# Altium schematic symbol library Component.SchLib: 203 symbols (part 2 of 2)
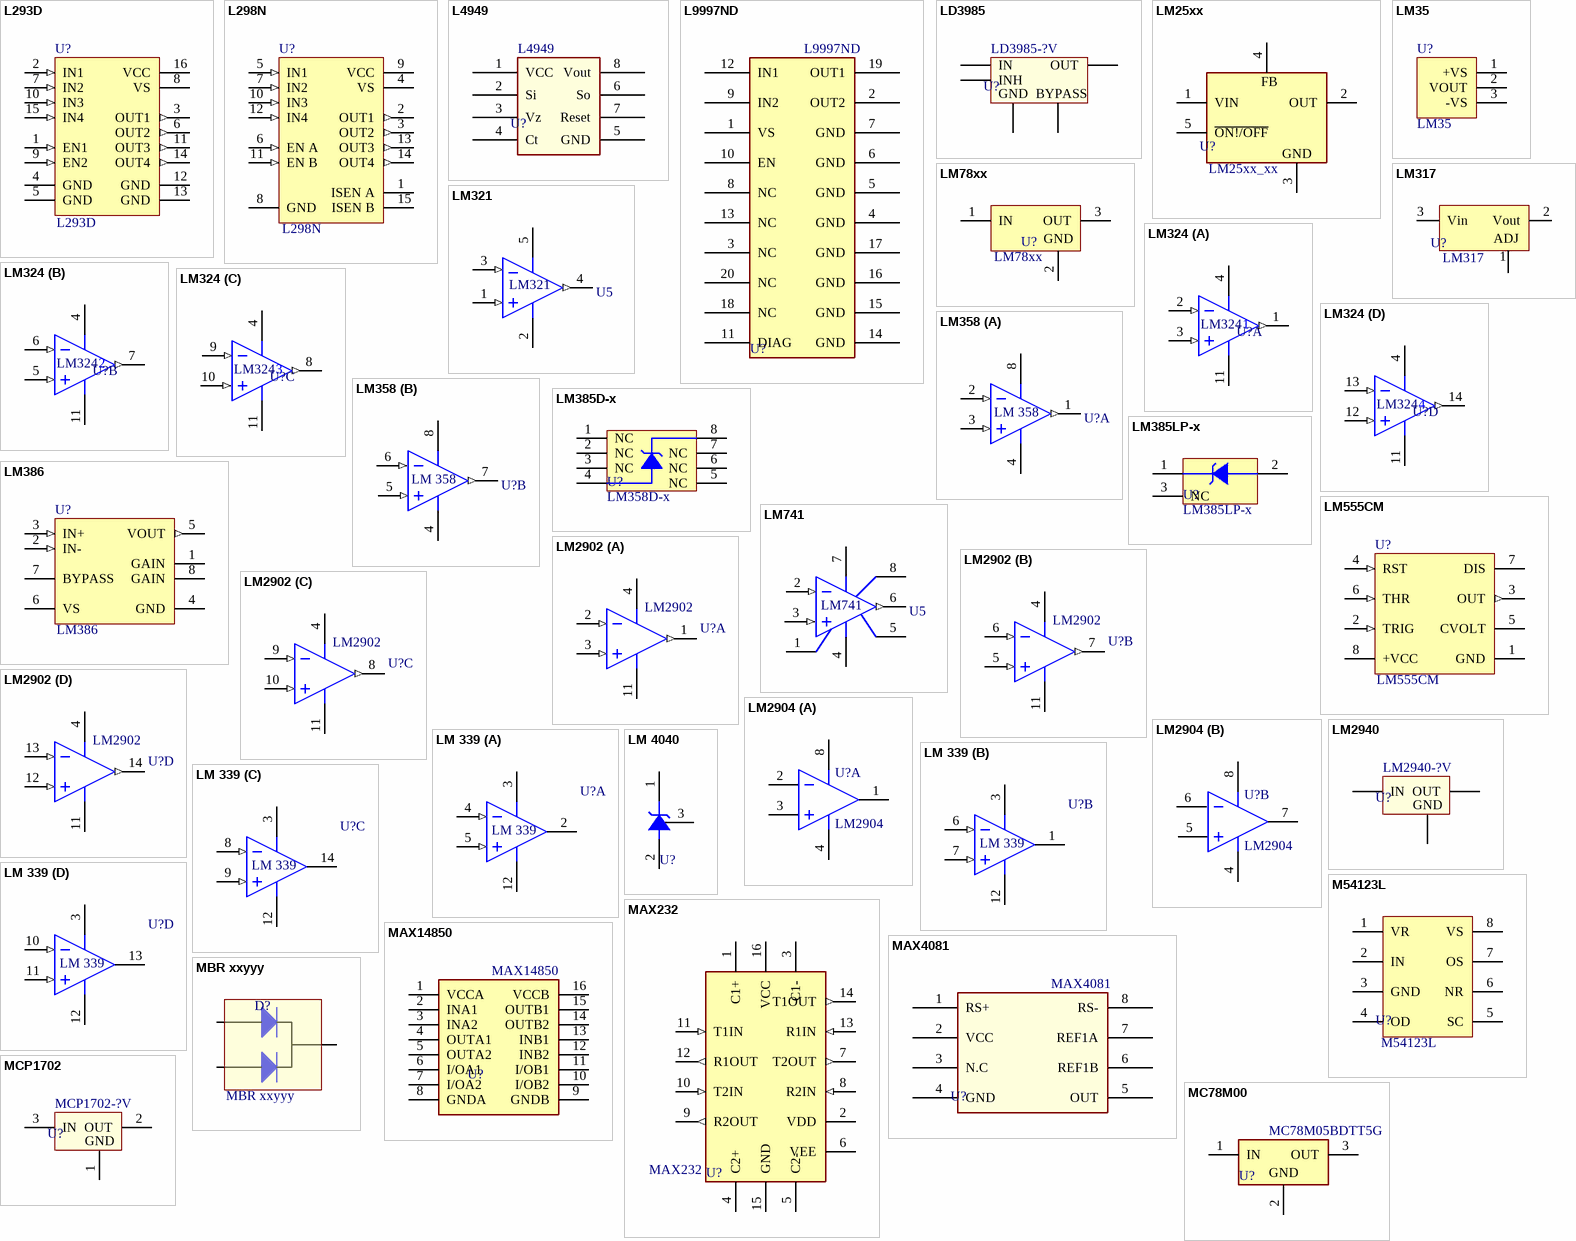
[diagram p8: symbols L293D to MCP1702]

## LM2902
designator U?
Quadruple Operational Amplifiers; PartNumber: LM2902; Temperature Range: -x°C to x°C
footprint DIP 14-N (DIP; 14 Leads; Row Spacing 7.62 mm; Pitch 2.54 mm)
footprint SOIC 14-3.9mm (SOIC, 14-Leads, Body 8.7x3.9mm, Pitch 1.27mm, IPC Medium Density)
part A pins: 1 OUT (out), 2 IN+ (in), 3 IN- (in), 4 V+ (power), 11 V- (power)
part B pins: 4 V+ (power), 5 IN- (in), 6 IN+ (in), 7 OUT (out), 11 V- (power)
part C pins: 4 V+ (power), 8 OUT (out), 9 IN+ (in), 10 IN- (in), 11 V- (power)
part D pins: 4 V+ (power), 11 V- (power), 12 IN- (in), 13 IN+ (in), 14 OUT (out)

## LM2904
designator U?
Low-power dual operational amplifier; SMD Code: LM2904DT; Specification: LM2904 Low-power dual operational amplifier; Warehouse Number: 11000640; Temperature Range: -40°C to 125°C; Package: SOIC 8-3.9mm; PartNumber: LM2904
footprint DIP 8-N (DIP; 8 Leads; Row Spacing 7.62 mm; Pitch 2.54 mm)
footprint SOIC 8-3.9mm (SOIC, 8-Leads, Body 4.9x3.9mm, Pitch 1.27mm, IPC Medium Density)
pins on every part: 4 V- (power), 8 V+ (power)
part A pins: 1 OUT, 2 IN+, 3 IN-
part B pins: 5 IN-, 6 IN+, 7 OUT

## LM2940
designator U?, comment LM2940-?V
The LM2940-N and LM2940C positive voltage The LM2940-N and LM2940C positive voltage The LM2940-N and LM2940C positive voltage maximum of 1 V over the entire temperature range.; Temperature Range: -x°C to x°C; PartNumber: LM2940-?V
footprint SOT223_4 (SOT223, 4-Leads, Body 6.5x3.5mm, Pitch 2.30mm-Designer Abbas Basereh)
pins: 1 IN, 2 GND, 3 OUT

## LM 339
designator U?
Low-Power Quad Voltage Comparator; PartNumber: LM 339; Temperature Range: -x°C to x°C
footprint DIP 14-N (DIP; 14 Leads; Row Spacing 7.62 mm; Pitch 2.54 mm)
footprint SOIC 14-3.9mm (SOIC, 14-Leads, Body 8.7x3.9mm, Pitch 1.27mm, IPC Medium Density)
pins on every part: 3 V+ (power), 12 V- (power)
part A pins: 2 OUT (oc), 4 IN- (in), 5 IN+ (in)
part B pins: 1 OUT (oc), 6 IN- (in), 7 IN+ (in)
part C pins: 8 IN- (in), 9 IN+ (in), 14 OUT (oc)
part D pins: 10 IN- (in), 11 IN+ (in), 13 OUT (oc)

## LM 4040
designator U?
Fixed Output Voltages of 2.048 V, 2.5 V, 3 V,4.096 V, 5 V, 8.192 V, and 10 V; Temperature Range: -x°C to x°C
footprint SOT23_N (SOT23, 3-Leads, Body 2.9x1.3mm, Pitch 0.95mm, Lead Span 2.3mm - Reverse Pinning, IPC Medium Density)
pins: 1 K, 2 A, 3 A

## M54123L
designator U?
EARTH LEAKAGE CURRENT  DETECTOR; PartNumber: M54123L; Temperature Range: -x°C to x°C
footprint SOIC 8-3.9mm (SOIC, 8-Leads, Body 4.9x3.9mm, Pitch 1.27mm, IPC Medium Density)
footprint SIP-8Pin
pins: 1 VR, 2 IN, 3 GND, 4 OD, 5 SC, 6 NR, 7 OS, 8 VS

## MAX232
designator U?
+5V Powered RS-232 Driver/Receiver; PartNumber: MAX232; Temperature Range: -x°C to x°C
footprint DIP 16-N (DIP; 16 Leads; Row Spacing 7.62 mm; Pitch 2.54 mm)
footprint SOIC 16-7.5MM (SOIC, 16-Leads, Body 10.3x7.5mm, Pitch 1.27mm, IPC Medium Density)
pins: 1 C1+, 2 VDD (power), 3 C1-, 4 C2+, 5 C2-, 6 VEE (power), 7 T2OUT (out), 8 R2IN (in), 9 R2OUT (out), 10 T2IN (in), 11 T1IN (in), 12 R1OUT (out), 13 R1IN (in), 14 T1OUT (out), 15 GND (power), 16 VCC (power)

## MAX4081
designator U?
76V, High-Side, Current-Sense Amplifiers / with Voltage Output; PartNumber: MAX4081; Temperature Range: -x°C to x°C
footprint SOIC 8-3.9mm (SOIC, 8-Leads, Body 4.9x3.9mm, Pitch 1.27mm, IPC Medium Density)
pins: 1 RS+, 2 VCC, 3 N.C, 4 GND, 5 OUT, 6 REF1B, 7 REF1A, 8 RS-

## MAX14850
designator U?
Digital Isolators Six Channel 600vrms Digital Isolator; PartNumber: MAX14850; Temperature Range: -x°C to x°C
footprint SOP-16N
pins: 1 VCCA, 2 INA1, 3 INA2, 4 OUTA1, 5 OUTA2, 6 I/OA1, 7 I/OA2, 8 GNDA, 9 GNDB, 10 I/OB2, 11 I/OB1, 12 INB2, 13 INB1, 14 OUTB2, 15 OUTB1, 16 VCCB

## MBR xxyyy
designator D?
Shotky; PartNumber: MBR xxyyy; Temperature Range: -x°C to x°C
footprint TO-220 AB S (Epoxy meets UL94, V0-Design:Abbas Basereh)
footprint TO-247 (SIP with Mounting Hole; 3 Leads; Body 20 x 15.6 x 5 mm (typ); Pitch 5.45 mm)
footprint TO-220 AB (Epoxy meets UL94, V0-Design:Abbas Basereh)
pins: 1, 2, 3

## MC78M00
designator U?, comment MC78M05BDTT5G
500mA, Very Low Drop (0.4V) Voltage Regulator; PartNumber: MC78M05BDTT5G; Temperature Range: -x°C to x°C
footprint D-PAK (D-PAK/TO-252-AA; 3 Leads (1 Cropped); Body 10.4 (inc. leads) x 6.7 mm (LxW max))
pins: 1 IN (power), 2 GND (power), 3 OUT (power)

## MCP1702
designator U?, comment MCP1702-?V
The MCP1702 is a family of CMOS low dropout (LDO) voltage regulators that can deliver up to 250 mA of current; PartNumber: MCP1702-?V; Temperature Range: -x°C to x°C
footprint SOT23_N (SOT23, 3-Leads, Body 2.9x1.3mm, Pitch 0.95mm, Lead Span 2.3mm - Reverse Pinning, IPC Medium Density)
footprint SOT223_4 (SOT223, 4-Leads, Body 6.5x3.5mm, Pitch 2.30mm-Designer Abbas Basereh); pin to pad 2>3 3>2
footprint TO-92 STR (DESIGNER :ABBAS BASEREH); pin to pad 2>3 3>2
pins: 1 GND, 2 OUT, 3 IN

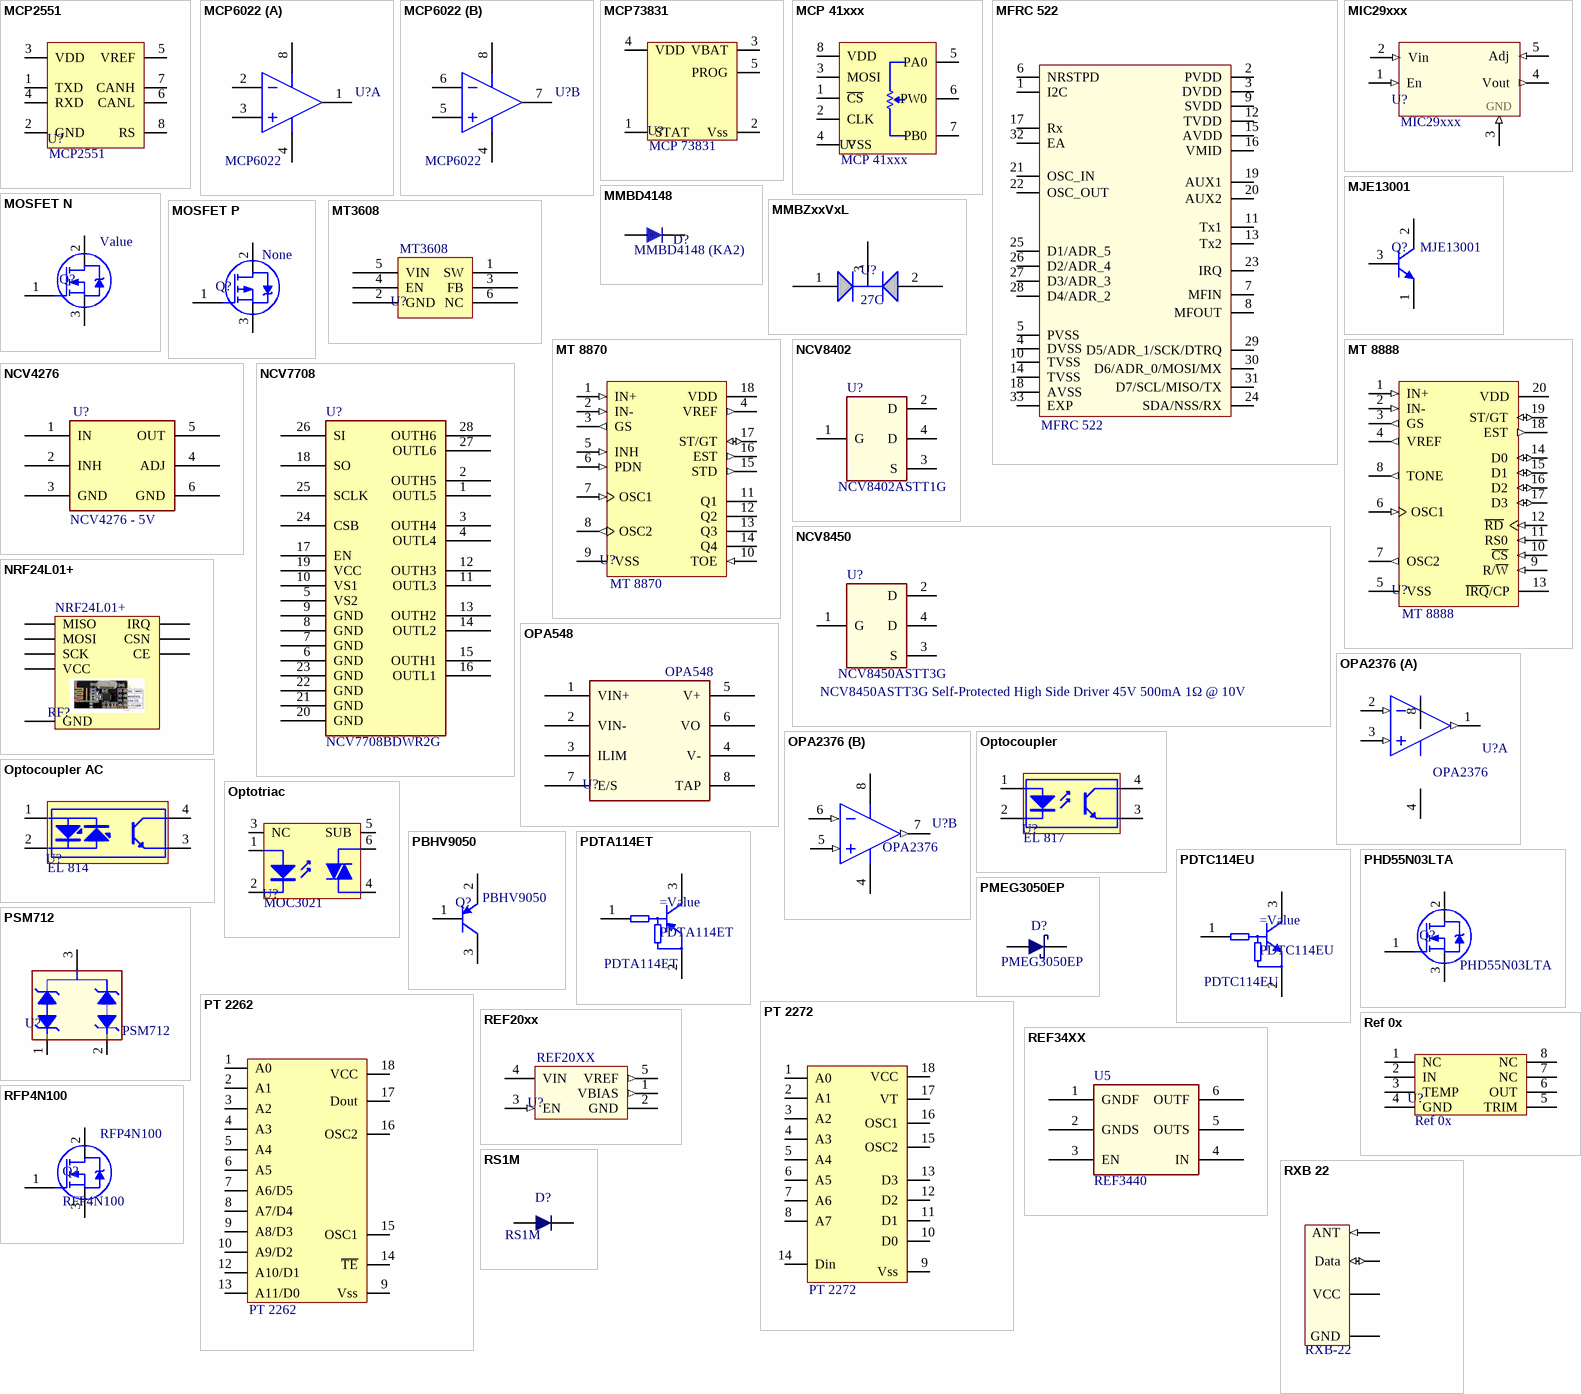
[diagram p4: symbols MCP2551 to RXB 22]

## MCP2551
designator U?
High Speed Can Transceiver; PartNumber: MCP2551; Temperature Range: -x°C to x°C
footprint DIP 8-N (DIP; 8 Leads; Row Spacing 7.62 mm; Pitch 2.54 mm)
footprint SOIC 8-3.9mm (SOIC, 8-Leads, Body 4.9x3.9mm, Pitch 1.27mm, IPC Medium Density)
pins: 1 TXD "Screw Terminal", 2 GND (power), 3 VDD (power) "Positive Supply 4.5V to 5.5V", 4 RXD "Receive Data", 5 VREF "Reference Voltage", 6 CANL "CAN Bus Low Line", 7 CANH "CAN Bus High Line", 8 RS "Mode/Slope Setting"

## MCP6022
designator U?
Rail-to-Rail Input/Output, 10 MHz Op Amps; PartNumber: MCP6022; Temperature Range: -x°C to x°C
footprint DIP 8-N (DIP; 8 Leads; Row Spacing 7.62 mm; Pitch 2.54 mm)
footprint SOIC 8-3.9mm (SOIC, 8-Leads, Body 4.9x3.9mm, Pitch 1.27mm, IPC Medium Density)
pins on every part: 4 V- (power), 8 V+ (power)
part A pins: 1 OUT, 2 IN+, 3 IN-
part B pins: 5 IN-, 6 IN+, 7 OUT

## MCP73831
designator U?, comment MCP 73831
Single-Cell, Fully Integrated Li-Ion & Li-Polymer Charge Management Controllers; PartNumber: MCP 73831; Temperature Range: -x°C to x°C
footprint SOT23-5
pins: 1 STAT "Screw Terminal", 2 Vss (power) "GND", 3 VBAT (power) "Positive Supply 4.5V to 5.5V", 4 VDD (power) "Receive Data", 5 PROG "Reference Voltage"

## MCP 41xxx
designator U?
Single Digital Potentiometer with SPI™ Interface; PartNumber: MCP 41xxx; Temperature Range: -x°C to x°C
footprint SOIC 8-3.9mm (SOIC, 8-Leads, Body 4.9x3.9mm, Pitch 1.27mm, IPC Medium Density)
pins: 1 ~{CS}, 2 CLK, 3 MOSI, 4 VSS (power), 5 PA0 (power), 6 PW0 (power), 7 PB0 (power), 8 VDD "Mode/Slope Setting"

## MFRC 522
designator U?
Standard 3V MIFARE reader solution IC; PartNumber: MFRC 522; Temperature Range: -x°C to x°C
footprint QFN32_5x5 (Thin QFP, 48-Leads, Body 7x7mm, Pitch 0.5mm, IPC Medium Density)
pins: 1 I2C, 2 PVDD, 3 DVDD, 4 DVSS, 5 PVSS, 6 NRSTPD, 7 MFIN, 8 MFOUT, 9 SVDD, 10 TVSS, 11 Tx1, 12 TVDD, 13 Tx2, 14 TVSS, 15 AVDD, 16 VMID, 17 Rx, 18 AVSS, 19 AUX1, 20 AUX2, 21 OSC_IN, 22 OSC_OUT, 23 IRQ, 24 SDA/NSS/RX, 25 D1/ADR_5, 26 D2/ADR_4, 27 D3/ADR_3, 28 D4/ADR_2, 29 D5/ADR_1/SCK/DTRQ, 30 D6/ADR_0/MOSI/MX, 31 D7/SCL/MISO/TX, 32 EA, 33 EXP

## MIC29xxx
designator U?
LDO Voltage Regulator; PartNumber: MIC29xxx; Temperature Range: -x°C to x°C
footprint D2PAK5 (D2PAK5-(TO263-5))
footprint To-220-5A (TO, Thru-Hole, Vertical, Heatsink Mounted; 5 In-Line Leads; Pitch 1.70 mm)
footprint TO-220_5 - with heatsink ya25 (TO-220 STRAIGHT, T05A pitch: 1.7mm-Designer Abbas Basereh)
footprint TO-220_5 with heatsink HS sot32 (TO-220 STRAIGHT, T05A pitch: 1.7mm-Designer Abbas Basereh)
pins: 1 En (in), 2 Vin (in), 3 GND (in), 4 Vout (out), 5 Adj (in)

## MJE13001
designator Q?
400 V, 200 mA NPN transistors; PartNumber: MJE13001; Temperature Range: -x°C to x°C
footprint TO-92 (TO, Flat Index; 3 In-Line, Axial Leads; Body Dia. 4.6mm; Leads 0.41 x 0.39 mm (max))
footprint TO-92 BENT (DESIGNER :ABBAS BASEREH)
footprint TO-92 CF (DESIGNER :ABBAS BASEREH)
footprint TO-92 STR (DESIGNER :ABBAS BASEREH)
pins: 1 E, 2 C, 3 B

## MMBD4148
designator D?, comment MMBD4148 (KA2)
PartNumber: MMBD4148 (KA2); Temperature Range: -x°C to x°C
footprint SOT23_L (SOT23, 3-Leads, Body 2.9x1.3mm, Pitch 0.95mm, Lead Span 2.3mm - Reverse Pinning, IPC High Density)
pins: 1, 3

## MMBZxxVxL
designator U?, comment 27C
Zener Diodes, 40 Watt Peak / Power; PartNumber: 27C; Temperature Range: -x°C to x°C
footprint SOT23_N (SOT23, 3-Leads, Body 2.9x1.3mm, Pitch 0.95mm, Lead Span 2.3mm - Reverse Pinning, IPC Medium Density)
pins: 1, 2, 3

## MOSFET N
designator Q?, comment Value
PartNumber: Value; Temperature Range: -x°C to x°C
footprint TO-220 AB (Epoxy meets UL94, V0-Design:Abbas Basereh)
footprint TO-220 AB S (Epoxy meets UL94, V0-Design:Abbas Basereh)
footprint D2Pak (D2Pak-(TO263/SOT404))
footprint TO-247 H2
footprint TO-247
footprint to-247 H
footprint SOT223_4 (SOT223, 4-Leads, Body 6.5x3.5mm, Pitch 2.30mm-Designer Abbas Basereh)
pins: 1 G, 2 D, 3 S

## MOSFET P
designator Q?, comment None
PartNumber: None; Temperature Range: -x°C to x°C
footprint TO-220 AB (Epoxy meets UL94, V0-Design:Abbas Basereh)
footprint TO-220 AB S (Epoxy meets UL94, V0-Design:Abbas Basereh)
footprint D2Pak (D2Pak-(TO263/SOT404))
footprint TO-247 H2
footprint TO-247
footprint to-247 H
footprint SOT223_4 (SOT223, 4-Leads, Body 6.5x3.5mm, Pitch 2.30mm-Designer Abbas Basereh)
pins: 1 G, 2 D, 3 S

## MT3608
designator U?
2A,High Efficiency 1.2MHz Current Mode Step-Up Converter; PartNumber: MT3608; Temperature Range: -x°C to x°C
footprint SOT23-6
pins: 1 SW, 2 GND, 3 FB, 4 EN, 5 VIN, 6 NC

## MT 8870
designator U?
Reciver DTMF; PartNumber: MT 8870; Temperature Range: -x°C to x°C
footprint SOIC-SO18_L (SOIC, 28-Leads, Body 17.9x7.5mm, Pitch 1.27mm, IPC High Density)
footprint DIP 18-N (DIP; 18 Leads; Row Spacing 7.62 mm; Pitch 2.54 mm)
pins: 1 IN+ (in), 2 IN- (in), 3 GS (out), 4 VREF (out), 5 INH (in), 6 PDN (in), 7 OSC1 (in), 8 OSC2 (out), 9 VSS (power), 10 TOE (in), 11 Q1 (hiz), 12 Q2 (hiz), 13 Q3 (hiz), 14 Q4 (hiz), 15 STD (out), 16 EST (out), 17 ST/GT (io), 18 VDD (power)

## MT 8888
designator U?
Reciver&Transiver DTMF; PartNumber: MT 8888; Temperature Range: -x°C to x°C
footprint SOIC-SO20_L (SOIC, 28-Leads, Body 17.9x7.5mm, Pitch 1.27mm, IPC High Density)
pins: 1 IN+ (in), 2 IN- (in), 3 GS (out), 4 VREF (out), 5 VSS (power), 6 OSC1 (in), 7 OSC2 (out), 8 TONE (out), 9 R/~{W} (in), 10 ~{CS} (in), 11 RS0 (in), 12 ~{RD} (in), 13 ~{IRQ}/CP (oc), 14 D0 (io), 15 D1 (io), 16 D2 (io), 17 D3 (io), 18 EST (out), 19 ST/GT (io), 20 VDD (power)

## NCV4276
designator U?, comment NCV4276 - 5V
NCV4276 linear low drop voltage regulator 5V 400MA; SMD Code: NCV4276DS50R4G; Warehouse Number: 11000549; Temperature Range: -40°C to 125°C; Package: D2PAK-5(TO263-5); Specification: NCV4276 linear low drop voltage regulator 5V 400MA; PartNumber: NCV4276 - 5V
footprint D2PAK5 (D2PAK5-(TO263-5))
pins: 1 IN, 2 INH, 3 GND, 4 ADJ, 5 OUT, 6 GND

## NCV7708
designator U?, comment NCV7708BDWR2G
NCV7708EDWR2G, Half Bridge Motor Driver Half-Bridge,, 28-Pin SOIC; Temperature Range: -x°C to x°C; PartNumber: NCV7708BDWR2G
footprint SOIC 28-7.5MM (SOIC, 28-Leads, Body 17.9x7.5mm, Pitch 1.27mm, IPC Medium Density)
footprint SOIC 32-8.9MM (SOIC, 32-Leads, Body 20.8x8.9mm, Pitch 1.27mm, IPC Medium Density)
pins: 1 OUTL5, 2 OUTH5, 3 OUTH4, 4 OUTL4, 5 VS2, 6 GND, 7 GND, 8 GND, 9 GND, 10 VS1, 11 OUTL3, 12 OUTH3, 13 OUTH2, 14 OUTL2, 15 OUTH1, 16 OUTL1, 17 EN, 18 SO, 19 VCC, 20 GND, 21 GND, 22 GND, 23 GND, 24 CSB, 25 SCLK, 26 SI, 27 OUTL6, 28 OUTH6

## NCV8402
designator U?, comment NCV8402ASTT1G
Logic Level Self-Protected Low Side Driver with Temperature and Current Limit; Specification: NCV8402ASTT1G Self-Protected Low Side Driver 42V 2A 165mΩ @ 10V; SMD Code: NCV8402ASTT1G; Temperature Range: -40°C to 150°C; Package: SOT−223; PartNumber: NCV8402ASTT1G
footprint SOT223 (SOT223, 4-Leads, Body 6.5x3.5mm, Pitch 2.30mm-Designer Abbas Basereh)
pins: 1 G, 2 D, 3 S, 4 D

## NCV8450
designator U?, comment NCV8450ASTT3G  Specification: NCV8450ASTT3G Self-Protected High Side Driver 45V 500mA 1Ω @ 10V
Logic Level Self-Protected High Side Driver with Temperature and Current Limit; SMD Code: NCV8450ASTT3G; Temperature Range: -40°C to 150°C; Package: SOT−223; PartNumber: NCV8450ASTT3G
footprint SOT223 (SOT223, 4-Leads, Body 6.5x3.5mm, Pitch 2.30mm-Designer Abbas Basereh)
pins: 1 G, 2 D, 3 S, 4 D

## NRF24L01+
designator RF?
Module RF; Temperature Range: -x°C to x°C; PartNumber: NRF24L01+
footprint NRF24L01P (NRFL01+ Module)
pins: CE, CSN, GND, IRQ, MISO, MOSI, SCK, VCC

## OPA548
designator U?
OPA548 High-Voltage, High-Current Operational Amplifier; PartNumber: OPA548; Temperature Range: -x°C to x°C
footprint D2PAK7
pins: 1 VIN+, 2 VIN-, 3 ILIM, 4 V-, 5 V+, 6 VO, 7 E/S, 8 TAP

## OPA2376
designator U?
OPAx376 Low-Noise, Low Quiescent Current, Precision Operational Amplifier e-trim Series; PartNumber: OPA2376; Temperature Range: -x°C to x°C
footprint SOIC 8-3.9mm (SOIC, 8-Leads, Body 4.9x3.9mm, Pitch 1.27mm, IPC Medium Density)
footprint DIP 8-N (DIP; 8 Leads; Row Spacing 7.62 mm; Pitch 2.54 mm)
pins on every part: 4 V- (power), 8 V+ (power)
part A pins: 1 OUT (out), 2 IN+ (in), 3 IN- (in)
part B pins: 5 IN- (in), 6 IN+ (in), 7 OUT (out)

## Optocoupler
designator U?, comment EL 817
4-Pin Phototransistor Optocoupler; PartNumber: EL 817; Temperature Range: -x°C to x°C
footprint DIP 4-N (DIP; 4 Leads; Row Spacing 7.62 mm; Pitch 2.54 mm)
footprint SOP 4-Gullwing Lead (SOP, 4-Leads, Body 4.60x6.50mm, Pitch 2.54mm, IPC Medium Density)
pins: 1 A "Anode", 2 K "Cathode", 3 E "Emitter", 4 C "Collector"

## Optocoupler AC
designator U?, comment EL 814
4-Pin AC Phototransistor Optocoupler; PartNumber: EL 814; Temperature Range: -x°C to x°C
footprint DIP 4-N (DIP; 4 Leads; Row Spacing 7.62 mm; Pitch 2.54 mm)
footprint SOP 4-Gullwing Lead (SOP, 4-Leads, Body 4.60x6.50mm, Pitch 2.54mm, IPC Medium Density)
pins: 1 A "Anode", 2 K "Cathode", 3 E "Emitter", 4 C "Collector"

## Optotriac
designator U?, comment MOC3021
6-Pin Phototransistor Optotriac; PartNumber: MOC3021; Temperature Range: -x°C to x°C
footprint DIP 6-N (DIP; 6 Leads; Row Spacing 7.62 mm; Pitch 2.54 mm)
footprint SOP 6-Gullwing Lead (SOP, 4-Leads, Body 4/65x6/75mm, Pitch 2/54mm, IPC Medium Density designer:abbas basereh)
pins: 1 A "Anode", 2 K "Cathode", 3 NC, 4 T2 "Emitter", 5 SUB "Triac SUB", 6 C "Collector"

## PBHV9050
designator Q?
PNP -500V, -150 mA; PartNumber: PBHV9050; Temperature Range: -x°C to x°C
footprint SOT23_N (SOT23, 3-Leads, Body 2.9x1.3mm, Pitch 0.95mm, Lead Span 2.3mm - Reverse Pinning, IPC Medium Density)
pins: 1 B, 2 E, 3 C

## PDTA114ET
designator =Value
50 V, 100 mA PNP resistor-equipped transistor; PartNumber: PDTA114ET; Temperature Range: -x°C to x°C
footprint SOT23_N (SOT23, 3-Leads, Body 2.9x1.3mm, Pitch 0.95mm, Lead Span 2.3mm - Reverse Pinning, IPC Medium Density)
pins: 1 B, 2 E, 3 C

## PDTC114EU
designator =Value
NPN resistor-equipped transistors; PartNumber: PDTC114EU; Temperature Range: -x°C to x°C
footprint SOT23_N (SOT23, 3-Leads, Body 2.9x1.3mm, Pitch 0.95mm, Lead Span 2.3mm - Reverse Pinning, IPC Medium Density)
pins: 1 B, 2 E, 3 C

## PHD55N03LTA
designator Q?
N_channel enhancement mode field effect transistor; Temperature Range: -x°C to x°C; PartNumber: PHD55N03LTA
footprint D-PAK (D-PAK/TO-252-AA; 3 Leads (1 Cropped); Body 10.4 (inc. leads) x 6.7 mm (LxW max))
pins: 1 G, 2 D, 3 S

## PMEG3050EP
designator D?
Low VF Schottky barrier rectifier 30 V, 5 A; SMD Code: PMEG3050EP,115; Specification: PMEG3050EP Low VF Schottky barrier rectifier 30 V, 5 A; Temperature Range: -55°C to 150°C; Package: SOD128; PartNumber: PMEG3050EP
footprint SOD128
pins: 1 A, 2 K

## PSM712
designator U?
600 WATT TVS ARRAY-ASYMMETRICAL DATA LINE PROTECTOR; PartNumber: PSM712; Temperature Range: -x°C to x°C
footprint SOT23_L (SOT23, 3-Leads, Body 2.9x1.3mm, Pitch 0.95mm, Lead Span 2.3mm - Reverse Pinning, IPC High Density)
footprint SOT23_N (SOT23, 3-Leads, Body 2.9x1.3mm, Pitch 0.95mm, Lead Span 2.3mm - Reverse Pinning, IPC Medium Density)
pins: 1 A, 2 K, 3 A

## PT 2262
designator U?
Remote Control Encoder; PartNumber: PT 2262; Temperature Range: -x°C to x°C
footprint DIP 18-N (DIP; 18 Leads; Row Spacing 7.62 mm; Pitch 2.54 mm)
pins: 1 A0 (power), 2 A1 (power), 3 A2 (power), 4 A3 (power), 5 A4 (power), 6 A5 (power), 7 A6/D5 (power), 8 A7/D4 (power), 9 A8/D3 (power), 9 Vss (power), 10 A9/D2 (power), 12 A10/D1 (power), 13 A11/D0 (power), 14 ~{TE} (hiz), 15 OSC1 (hiz), 16 OSC2 (hiz), 17 Dout (hiz), 18 VCC (hiz)

## PT 2272
designator U?
Remote Control Decoder; PartNumber: PT 2272; Temperature Range: -x°C to x°C
footprint DIP 18-N (DIP; 18 Leads; Row Spacing 7.62 mm; Pitch 2.54 mm)
pins: 1 A0 (power), 2 A1 (power), 3 A2 (power), 4 A3 (power), 5 A4 (power), 6 A5 (power), 7 A6 (power), 8 A7 (power), 9 Vss (power), 10 D0 (power), 11 D1 (power), 12 D2 (power), 13 D3 (power), 14 Din (hiz), 15 OSC2 (hiz), 16 OSC1 (hiz), 17 VT (hiz), 18 VCC (hiz)

## REF20xx
designator U?, comment REF20XX
REF20xx Low-Drift, Low-Power, Dual-Output, VREF and VREF / 2 Voltage References; PartNumber: REF20XX; Temperature Range: -x°C to x°C
footprint SOT23-5
pins: 1 VBIAS (out), 2 GND, 3 EN (in), 4 VIN, 5 VREF (out)

## REF34XX
designator U5, comment REF3440
REF34xx Low-Drift, Low-Power, Small-Footprint Series Voltage Reference; PartNumber: REF3440; Temperature Range: -x°C to x°C
footprint SOT23-6
pins: 1 GNDF, 2 GNDS, 3 EN, 4 IN, 5 OUTS, 6 OUTF

## Ref 0x
designator U?
Voltage References Precision 2.5 V, 5.0 V and 10.0 V (Ref 03,Ref 02,Ref 01); PartNumber: Ref 0x; Temperature Range: -x°C to x°C
footprint SOIC 8-3.9mm (SOIC, 8-Leads, Body 4.9x3.9mm, Pitch 1.27mm, IPC Medium Density)
footprint DIP 8-N (DIP; 8 Leads; Row Spacing 7.62 mm; Pitch 2.54 mm)
pins: 1 NC, 2 IN (power), 3 TEMP, 4 GND (power), 5 TRIM, 6 OUT (power), 7 NC, 8 NC

## RFP4N100
designator Q?
4.3 A_1 KV_R(ds)=3.5 Ohm_N Channel; Temperature Range: -x°C to x°C; PartNumber: RFP4N100
footprint TO-220 AB (Epoxy meets UL94, V0-Design:Abbas Basereh)
footprint TO-220 AB S (Epoxy meets UL94, V0-Design:Abbas Basereh)
footprint TO-220-H2
footprint TO-220 AB WITH HEAT SINK (Epoxy meets UL94, V0-Design:Abbas Basereh)
footprint TO-220 AB WITH HEAT SINK ASM (-Design:Abbas Basereh)
footprint TO-220 AB with heatsink ya25 (Epoxy meets UL94, V0-Design:Abbas Basereh)
footprint D2Pak_N
pins: 1 G, 2 D, 3 S

## RS1M
designator D?
Fast Rectifiers; Specification: RS1M Fast Rectifiers 1000V 1A; Reverse Recovery Time: 500 nS; SMD Code: RS1M; Temperature Range: -55°C to 150°C; Package: DO-214-AC (SMA); PartNumber: RS1M
footprint DO-214-AC (SMA)
pins: 1 A, 2 K

## RXB 22
designator M?, comment RXB-22
ASK Reciver 315~433 MHz; PartNumber: RXB-22; Temperature Range: -x°C to x°C
footprint RXB-22
pins: 1 ANT (in), 2 GND (power), 3 VCC (power), 4 Data (io)

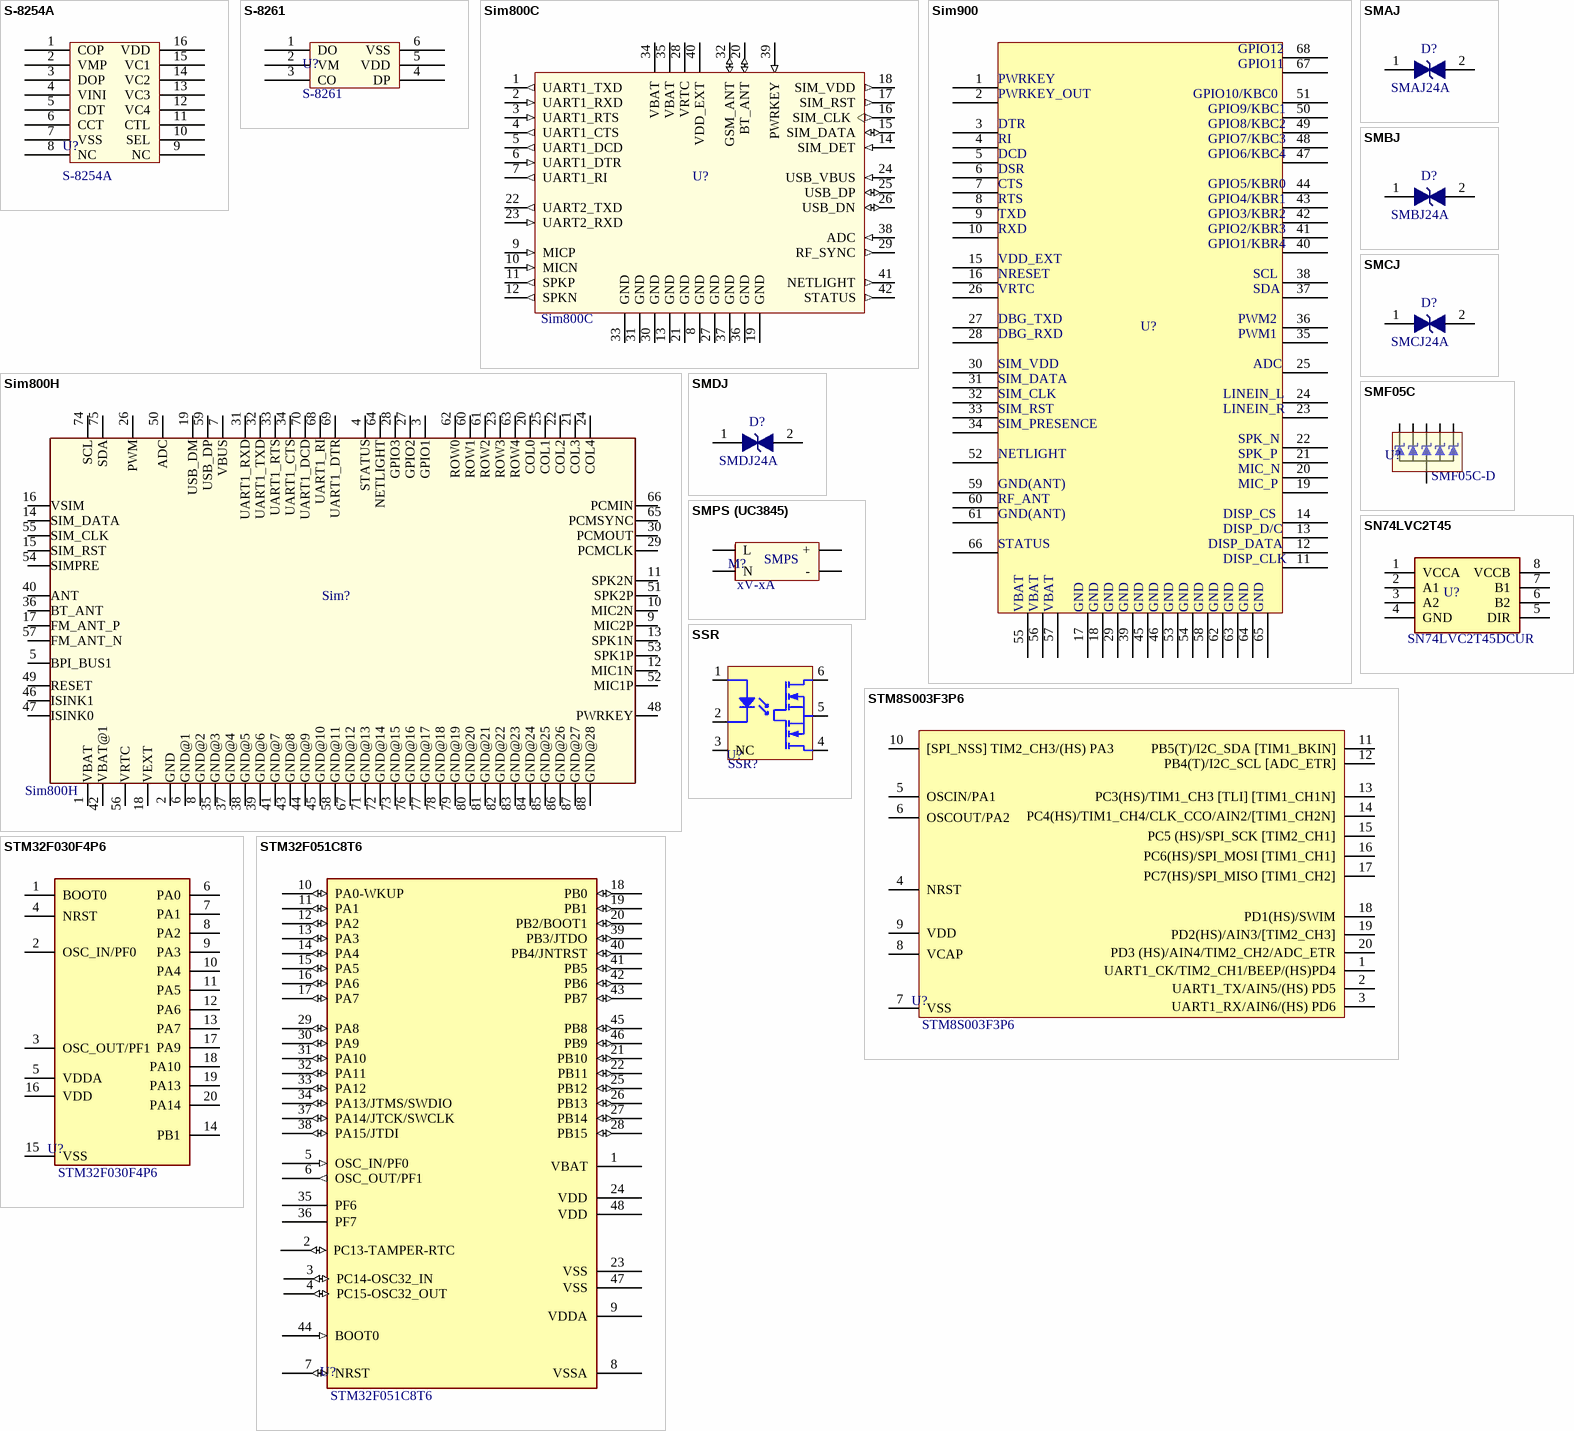
[diagram p5: symbols S-8254A to STM32F051C8T6]

## S-8254A
designator U?
3&4 Cell Battry Protection; PartNumber: S-8254A; Temperature Range: -x°C to x°C
footprint TSSOP 16 (Shrink Small Outline; 16 Leads; Body Width 4.4 mm; Pitch 0.65 mm)
pins: 1 COP, 2 VMP, 3 DOP, 4 VINI, 5 CDT, 6 CCT, 7 VSS, 8 NC, 9 NC, 10 SEL, 11 CTL, 12 VC4, 13 VC3, 14 VC2, 15 VC1, 16 VDD

## S-8261
designator U?
1 Cell Battry Protection; PartNumber: S-8261; Temperature Range: -x°C to x°C
footprint SOT23-6
pins: 1 DO, 2 VM, 3 CO, 4 DP, 5 VDD, 6 VSS

## Sim800C
designator U?
Simcom; PartNumber: Sim800C; Temperature Range: -x°C to x°C
footprint Sim800C
pins: 1 UART1_TXD (out), 2 UART1_RXD (in), 3 UART1_RTS (in), 4 UART1_CTS (out), 5 UART1_DCD (out), 6 UART1_DTR (in), 7 UART1_RI (out), 8 GND (power), 9 MICP (in), 10 MICN (in), 11 SPKP (out), 12 SPKN (out), 13 GND (power), 14 SIM_DET (in), 15 SIM_DATA (io), 16 SIM_CLK (out), 17 SIM_RST (out), 18 SIM_VDD (out), 19 GND (power), 20 BT_ANT (io), 21 GND (power), 22 UART2_TXD (out), 23 UART2_RXD (in), 24 USB_VBUS (in), 25 USB_DP (io), 26 USB_DN (io), 27 GND (power), 28 VRTC (power), 29 RF_SYNC (out), 30 GND (power), 31 GND (power), 32 GSM_ANT (io), 33 GND (power), 34 VBAT (power), 35 VBAT (power), 36 GND (power), 37 GND (power), 38 ADC (in), 39 PWRKEY (in), 40 VDD_EXT (power), 41 NETLIGHT (out), 42 STATUS (out)

## Sim800H
designator Sim?
Simcom; PartNumber: Sim800H; Temperature Range: -x°C to x°C
footprint Sim800H
pins: 1 VBAT (io), 2 GND (io), 3 GPIO1 (io), 4 STATUS (io), 5 BPI_BUS1 (io), 6 GND@1 (io), 7 VBUS (io), 8 GND@2 (io), 9 MIC2P (io), 10 MIC2N (io), 11 SPK2N (io), 12 MIC1N (io), 13 SPK1N (io), 14 SIM_DATA (io), 15 SIM_RST (io), 16 VSIM (io), 17 FM_ANT_P (io), 18 VEXT (io), 19 USB_DM (io), 20 COL0 (io), 21 COL3 (io), 22 COL2 (io), 23 ROW3 (io), 24 COL4 (io), 25 COL1 (io), 26 PWM (io), 27 GPIO2 (io), 28 GPIO3 (io), 29 PCMCLK (io), 30 PCMOUT (io), 31 UART1_RXD (io), 32 UART1_TXD (io), 33 UART1_RTS (io), 34 UART1_CTS (io), 35 GND@3 (io), 36 BT_ANT (io), 37 GND@4 (io), 38 GND@5 (io), 39 GND@6 (io), 40 ANT (io), 41 GND@7 (io), 42 VBAT@1 (io), 43 GND@8 (io), 44 GND@9 (io), 45 GND@10 (io), 46 ISINK1 (io), 47 ISINK0 (io), 48 PWRKEY (io), 49 RESET (io), 50 ADC (io), 51 SPK2P (io), 52 MIC1P (io), 53 SPK1P (io), 54 SIMPRE (io), 55 SIM_CLK (io), 56 VRTC (io), 57 FM_ANT_N (io), 58 GND@11 (io), 59 USB_DP (io), 60 ROW1 (io), 61 ROW2 (io), 62 ROW0 (io), 63 ROW4 (io), 64 NETLIGHT (io), 65 PCMSYNC (io), 66 PCMIN (io), 67 GND@12 (io), 68 UART1_RI (io), 69 UART1_DTR (io), 70 UART1_DCD (io), 71 GND@13 (io), 72 GND@14 (io), 73 GND@15 (io), 74 SCL (io), 75 SDA (io), 76 GND@16 (io), 77 GND@17 (io), 78 GND@18 (io), 79 GND@19 (io), 80 GND@20 (io), 81 GND@21 (io), 82 GND@22 (io), 83 GND@23 (io), 84 GND@24 (io), 85 GND@25 (io), 86 GND@26 (io), 87 GND@27 (io), 88 GND@28 (io)

## Sim900
designator U?
GSM Module; Temperature Range: -x°C to x°C
footprint Sim900
pins: 1, 2, 3, 4, 5, 6, 7, 8, 9, 10, 11, 12, 13, 14, 15, 16, 17, 18, 19, 20, 21, 22, 23, 24, 25, 26, 27, 28, 29, 30, 31, 32, 33, 34, 35, 36, 37, 38, 39, 40, 41, 42, 43, 44, 45, 46, 47, 48, 49, 50, 51, 52, 53, 54, 55, 56, 57, 58, 59, 60, 61, 62, 63, 64, 65, 66, 67, 68
text: GPIO12; GPIO11; PWRKEY; PWRKEY_OUT; GPIO10/KBC0; GPIO9/KBC1; DTR; GPIO8/KBC2; RI; GPIO7/KBC3; DCD; GPIO6/KBC4; DSR; CTS; GPIO5/KBR0; RTS; GPIO4/KBR1; TXD; GPIO3/KBR2; RXD; GPIO2/KBR3; GPIO1/KBR4; VDD_EXT; NRESET; SCL; VRTC; SDA; DBG_TXD; PWM2; DBG_RXD; PWM1; SIM_VDD; ADC; SIM_DATA; SIM_CLK; LINEIN_L; SIM_RST; LINEIN_R; SIM_PRESENCE; SPK_N; NETLIGHT; SPK_P; MIC_N; GND(ANT); MIC_P; RF_ANT; DISP_CS; DISP_D/C; STATUS; DISP_DATA; DISP_CLK; VBAT; GND

## SMAJ
designator D?, comment SMAJ24A
400W Surface Mount Transient Voltage Supressors; SMD Code: BZ; Specification: SMAJ24A400W Surface Mount Transient Voltage Supressors Diode; Temperature Range: -65°C to 150°C; Package: DO-214AC (SMA); Power: 400W; PartNumber: SMAJ24A
footprint DO-214-AC (SMA)
pins: 1, 2

## SMBJ
designator D?, comment SMBJ24A
600W Surface Mount Transient Voltage Supressors; SMD Code: LZ; Specification: SMBJ24A600W Surface Mount Transient Voltage Supressors Diode; Temperature Range: -65°C to 150°C; Package: DO-214-AA (SMB); Power: 600W; PartNumber: SMBJ24A
footprint DO-214-AA (SMB) (DO-214-AA/SMB; 2 C-Bend Leads; Body 5.3 x 3.6 mm, inc. leads (LxW))
pins: 1, 2

## SMCJ
designator D?, comment SMCJ24A
400W Surface Mount Transient Voltage Supressors; SMD Code: GEZ; Power: 1500W; Specification: SMCJ24A1500W Surface Mount Transient Voltage Supressors Diode; Temperature Range: -65°C to 150°C; Package: DO-214-AB (SMC); PartNumber: SMCJ24A
footprint DO-214-AB (SMC) (DO-214-AB/SMC; 2 C-Bend Leads; Body 7.9 x 5.9 mm, inc. leads (LxW))
pins: 1, 2

## SMDJ
designator D?, comment SMDJ24A
400W Surface Mount Transient Voltage Supressors; SMD Code: PEZ; Power: 3000W; Specification: SMDJ24A3000W Surface Mount Transient Voltage Supressors Diode; Temperature Range: -65°C to 150°C; Package: DO-214-AB (SMC); PartNumber: SMDJ24A
footprint DO-214-AB (SMC) (DO-214-AB/SMC; 2 C-Bend Leads; Body 7.9 x 5.9 mm, inc. leads (LxW))
pins: 1, 2

## SMF05C
designator U?, comment SMF05C-D
5 TVS Diode-5.0 V; PartNumber: SMF05C-D; Temperature Range: -x°C to x°C
footprint SOT323
pins: 1, 2, 3, 4, 5, 6

## SMPS (UC3845)
designator M?, comment xV-xA
Wide Range SMPS with and voltage And Amp; PartNumber: xV-xA; Temperature Range: -x°C to x°C
footprint SMPS Wide Range
pins: +, -, L, N
text: SMPS

## SN74LVC2T45
designator U?, comment SN74LVC2T45DCUR
Texas Instruments SN74LVC2T45DCUR, Voltage Level Translator, Bus Transceiver, 3-State, 1.65  5.5 V, 8-Pin UM; PartNumber: SN74LVC2T45DCUR; Temperature Range: -x°C to x°C
footprint VSSOP 8 (SOP50P310X90-8N)
pins: 1 VCCA, 2 A1, 3 A2, 4 GND, 5 DIR, 6 B2, 7 B1, 8 VCCB

## SSR
designator U?, comment SSR?
Solid State Relays; PartNumber: SSR?; Temperature Range: -x°C to x°C
footprint DIP 6-N (DIP; 6 Leads; Row Spacing 7.62 mm; Pitch 2.54 mm)
footprint SOP 6-Gullwing Lead (SOP, 4-Leads, Body 4/65x6/75mm, Pitch 2/54mm, IPC Medium Density designer:abbas basereh)
pins: 1 A "Anode", 2 K "Cathode", 3 NC, 4 Drain "Emitter", 5 Source "Collector", 6 Drain "Triac SUB"

## STM8S003F3P6
designator U?
STM8S 8-bit MCU, Value line, 16-MHz ,8 Kbyte Flash memory, / 128-byte data EEPROM, 10-bit ADC, 3 timers, UART, SPI, I²C; PartNumber: STM8S003F3P6; Temperature Range: -x°C to x°C
footprint TSSOP 20 (Shrink Small Outline; 20 Leads; Body Width 4.4 mm; Pitch 0.65 mm)
pins: 1 UART1_CK/TIM2_CH1/BEEP/(HS)PD4 (power), 2 UART1_TX/AIN5/(HS) PD5 (power), 3 UART1_RX/AIN6/(HS) PD6 (power), 4 NRST (power), 5 OSCIN/PA1 (power), 6 OSCOUT/PA2 (power), 7 VSS (power), 8 VCAP (power), 9 VDD (power), 10 [SPI_NSS] TIM2_CH3/(HS) PA3 (power), 11 PB5(T)/I2C_SDA [TIM1_BKIN] (power), 12 PB4(T)/I2C_SCL [ADC_ETR] (power), 13 PC3(HS)/TIM1_CH3 [TLI] [TIM1_CH1N] (power), 14 PC4(HS)/TIM1_CH4/CLK_CCO/AIN2/[TIM1_CH2N] (power), 15 PC5 (HS)/SPI_SCK [TIM2_CH1] (power), 16 PC6(HS)/SPI_MOSI [TIM1_CH1] (power), 17 PC7(HS)/SPI_MISO [TIM1_CH2] (power), 18 PD1(HS)/SWIM (power), 19 PD2(HS)/AIN3/[TIM2_CH3] (power), 20 PD3 (HS)/AIN4/TIM2_CH2/ADC_ETR (power)

## STM32F030F4P6
designator U?
Value-line ARM -based 32-bit MCU with up to 256-KB Flash, / timers, ADC, communication interfaces, 2.4-3.6 V operation; PartNumber: STM32F030F4P6; Temperature Range: -x°C to x°C
footprint TSSOP 20 (Shrink Small Outline; 20 Leads; Body Width 4.4 mm; Pitch 0.65 mm)
pins: 1 BOOT0 (power), 2 OSC_IN/PF0 (power), 3 OSC_OUT/PF1 (power), 4 NRST (power), 5 VDDA (power), 6 PA0 (power), 7 PA1 (power), 8 PA2 (power), 9 PA3 (power), 10 PA4 (power), 11 PA5 (power), 12 PA6 (power), 13 PA7 (power), 14 PB1 (power), 15 VSS (power), 16 VDD (power), 17 PA9 (power), 18 PA10 (power), 19 PA13 (power), 20 PA14 (power)

## STM32F051C8T6
designator U?
STM32 ARM-based 32-bit MCU with 64 Kbytes Flash, 48-pin LQFP, Industrial Temperature; PartNumber: STM32F051C8T6; Temperature Range: -x°C to x°C
footprint LQFP48_N (Thin QFP, 48-Leads, Body 7x7mm, Pitch 0.5mm, IPC Medium Density)
pins: 1 VBAT (power), 2 PC13-TAMPER-RTC (io), 3 PC14-OSC32_IN (io), 4 PC15-OSC32_OUT (io), 5 OSC_IN/PF0 (in), 6 OSC_OUT/PF1 (out), 7 NRST (io), 8 VSSA (power), 9 VDDA (power), 10 PA0-WKUP (io), 11 PA1 (io), 12 PA2 (io), 13 PA3 (io), 14 PA4 (io), 15 PA5 (io), 16 PA6 (io), 17 PA7 (io), 18 PB0 (io), 19 PB1 (io), 20 PB2/BOOT1 (io), 21 PB10 (io), 22 PB11 (io), 23 VSS (power), 24 VDD (power), 25 PB12 (io), 26 PB13 (io), 27 PB14 (io), 28 PB15 (io), 29 PA8 (io), 30 PA9 (io), 31 PA10 (io), 32 PA11 (io), 33 PA12 (io), 34 PA13/JTMS/SWDIO (io), 35 PF6 (power), 36 PF7 (power), 37 PA14/JTCK/SWCLK (io), 38 PA15/JTDI (io), 39 PB3/JTDO (io), 40 PB4/JNTRST (io), 41 PB5 (io), 42 PB6 (io), 43 PB7 (io), 44 BOOT0 (in), 45 PB8 (io), 46 PB9 (io), 47 VSS (power), 48 VDD (power)

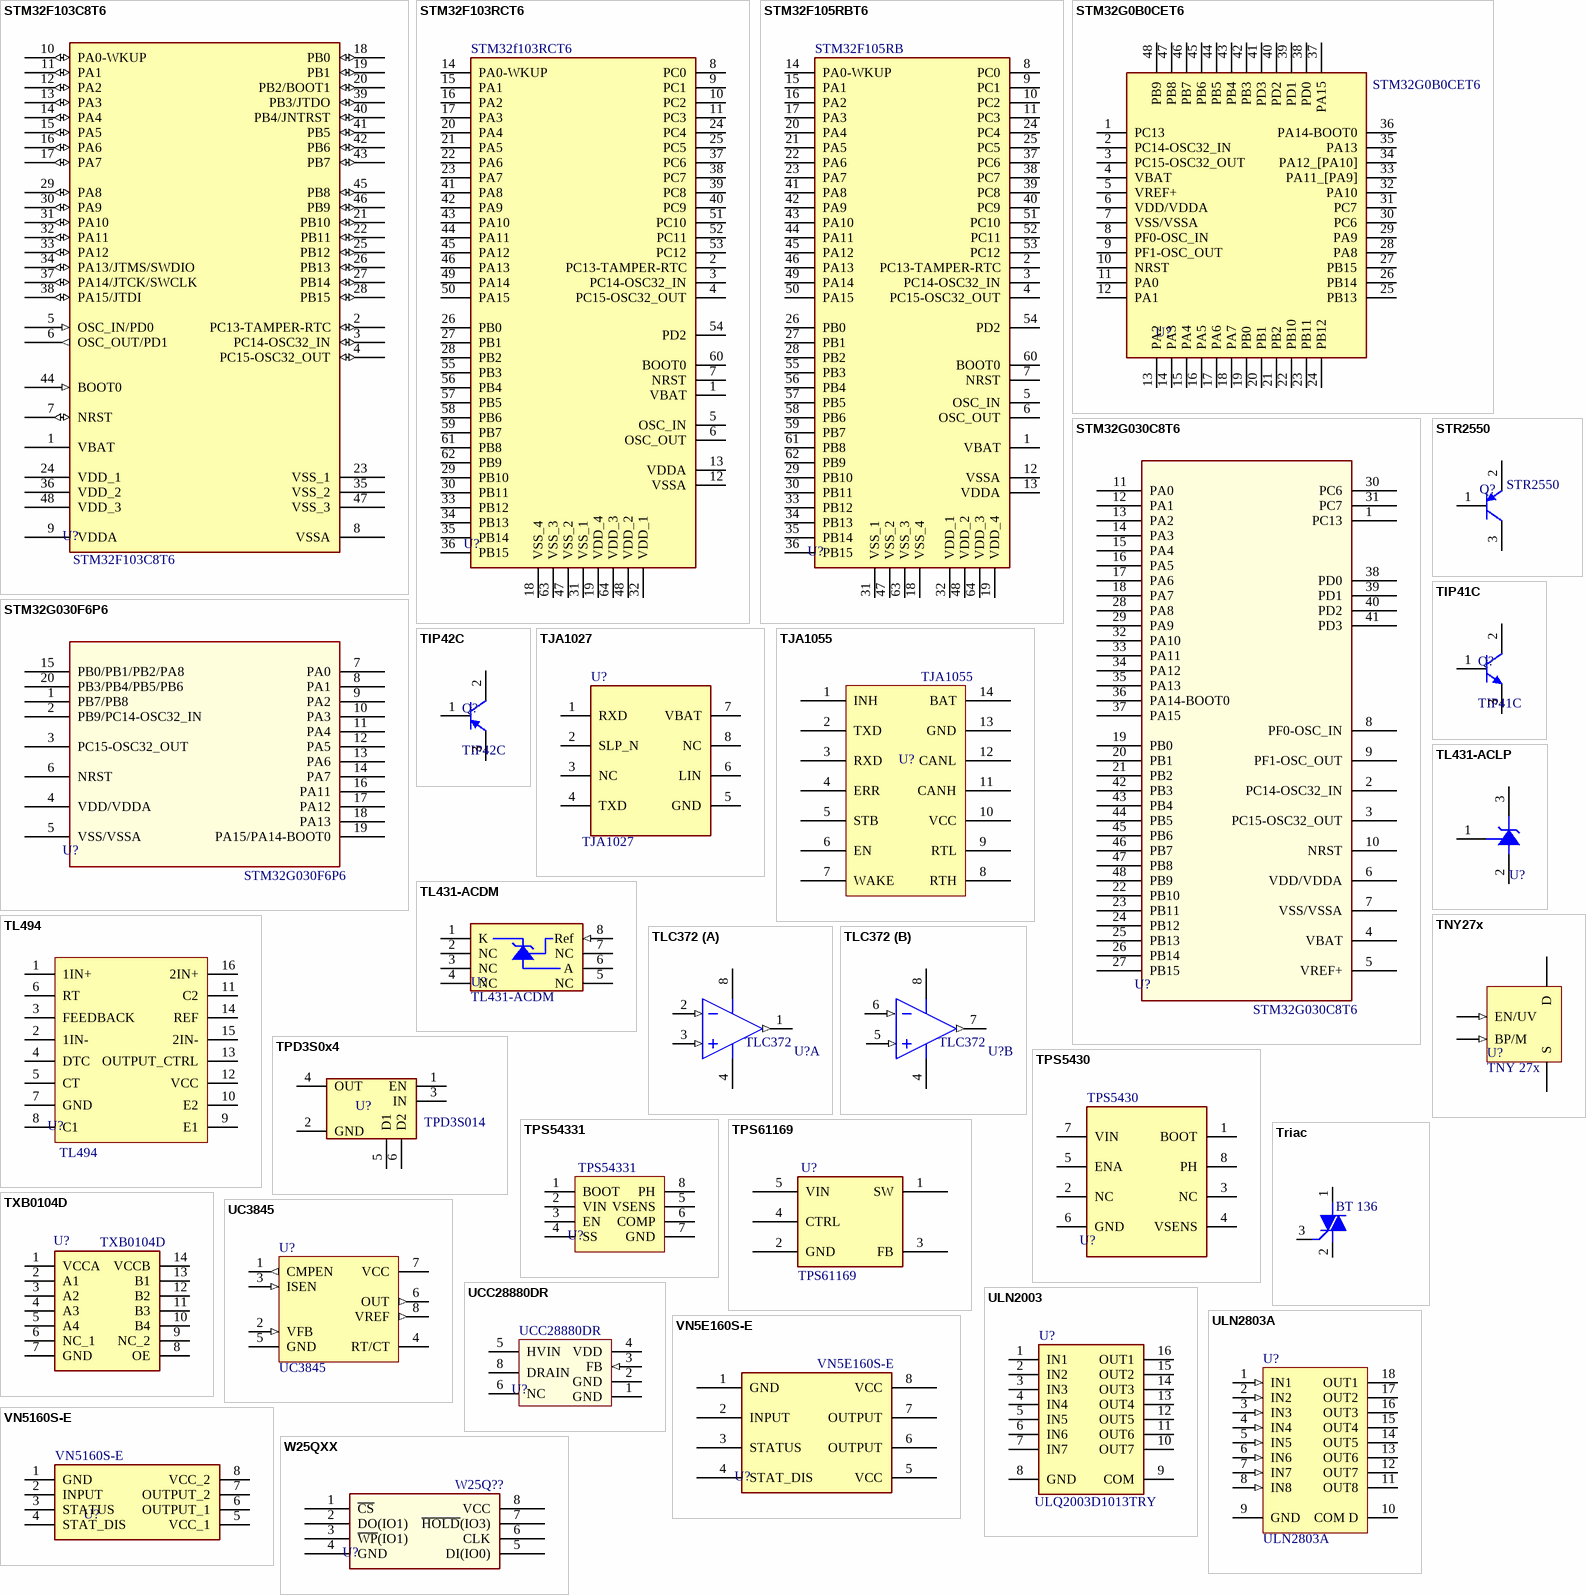
[diagram p6: symbols STM32F103C8T6 to W25QXX]

## STM32F103C8T6
designator U?
STM32 ARM-based 32-bit MCU with 64 Kbytes Flash, 48-pin LQFP, Industrial Temperature; PartNumber: STM32F103C8T6; Temperature Range: -x°C to x°C
footprint LQFP48_N (Thin QFP, 48-Leads, Body 7x7mm, Pitch 0.5mm, IPC Medium Density)
pins: 1 VBAT (power), 2 PC13-TAMPER-RTC (io), 3 PC14-OSC32_IN (io), 4 PC15-OSC32_OUT (io), 5 OSC_IN/PD0 (in), 6 OSC_OUT/PD1 (out), 7 NRST (io), 8 VSSA (power), 9 VDDA (power), 10 PA0-WKUP (io), 11 PA1 (io), 12 PA2 (io), 13 PA3 (io), 14 PA4 (io), 15 PA5 (io), 16 PA6 (io), 17 PA7 (io), 18 PB0 (io), 19 PB1 (io), 20 PB2/BOOT1 (io), 21 PB10 (io), 22 PB11 (io), 23 VSS_1 (power), 24 VDD_1 (power), 25 PB12 (io), 26 PB13 (io), 27 PB14 (io), 28 PB15 (io), 29 PA8 (io), 30 PA9 (io), 31 PA10 (io), 32 PA11 (io), 33 PA12 (io), 34 PA13/JTMS/SWDIO (io), 35 VSS_2 (power), 36 VDD_2 (power), 37 PA14/JTCK/SWCLK (io), 38 PA15/JTDI (io), 39 PB3/JTDO (io), 40 PB4/JNTRST (io), 41 PB5 (io), 42 PB6 (io), 43 PB7 (io), 44 BOOT0 (in), 45 PB8 (io), 46 PB9 (io), 47 VSS_3 (power), 48 VDD_3 (power)

## STM32F103RCT6
designator U?, comment STM32f103RCT6
STM32 MCU; PartNumber: STM32f103RCT6; Temperature Range: -x°C to x°C
footprint LQFP64_N
pins: 1 VBAT, 2 PC13-TAMPER-RTC, 3 PC14-OSC32_IN, 4 PC15-OSC32_OUT, 5 OSC_IN, 6 OSC_OUT, 7 NRST, 8 PC0, 9 PC1, 10 PC2, 11 PC3, 12 VSSA, 13 VDDA, 14 PA0-WKUP, 15 PA1, 16 PA2, 17 PA3, 18 VSS_4, 19 VDD_4, 20 PA4, 21 PA5, 22 PA6, 23 PA7, 24 PC4, 25 PC5, 26 PB0, 27 PB1, 28 PB2, 29 PB10, 30 PB11, 31 VSS_1, 32 VDD_1, 33 PB12, 34 PB13, 35 PB14, 36 PB15, 37 PC6, 38 PC7, 39 PC8, 40 PC9, 41 PA8, 42 PA9, 43 PA10, 44 PA11, 45 PA12, 46 PA13, 47 VSS_2, 48 VDD_2, 49 PA14, 50 PA15, 51 PC10, 52 PC11, 53 PC12, 54 PD2, 55 PB3, 56 PB4, 57 PB5, 58 PB6, 59 PB7, 60 BOOT0, 61 PB8, 62 PB9, 63 VSS_3, 64 VDD_3

## STM32F105RBT6
designator U?, comment STM32F105RB
STM32 MCU; PartNumber: STM32F105RB; Temperature Range: -x°C to x°C
footprint LQFP64_N
pins: 1 VBAT, 2 PC13-TAMPER-RTC, 3 PC14-OSC32_IN, 4 PC15-OSC32_OUT, 5 OSC_IN, 6 OSC_OUT, 7 NRST, 8 PC0, 9 PC1, 10 PC2, 11 PC3, 12 VSSA, 13 VDDA, 14 PA0-WKUP, 15 PA1, 16 PA2, 17 PA3, 18 VSS_4, 19 VDD_4, 20 PA4, 21 PA5, 22 PA6, 23 PA7, 24 PC4, 25 PC5, 26 PB0, 27 PB1, 28 PB2, 29 PB10, 30 PB11, 31 VSS_1, 32 VDD_1, 33 PB12, 34 PB13, 35 PB14, 36 PB15, 37 PC6, 38 PC7, 39 PC8, 40 PC9, 41 PA8, 42 PA9, 43 PA10, 44 PA11, 45 PA12, 46 PA13, 47 VSS_2, 48 VDD_2, 49 PA14, 50 PA15, 51 PC10, 52 PC11, 53 PC12, 54 PD2, 55 PB3, 56 PB4, 57 PB5, 58 PB6, 59 PB7, 60 BOOT0, 61 PB8, 62 PB9, 63 VSS_3, 64 VDD_3

## STM32G0B0CET6
designator U?
MCU 32-Bit Arm Cortex-M0+ RISC 512KB KB Flash 2V to 3.6V 48-Pin LQFP Tray - Tape and Reel; PartNumber: STM32G0B0CET6; Temperature Range: -x°C to x°C
footprint LQFP48_N
pins: 1 PC13, 2 PC14-OSC32_IN, 3 PC15-OSC32_OUT, 4 VBAT, 5 VREF+, 6 VDD/VDDA, 7 VSS/VSSA, 8 PF0-OSC_IN, 9 PF1-OSC_OUT, 10 NRST, 11 PA0, 12 PA1, 13 PA2, 14 PA3, 15 PA4, 16 PA5, 17 PA6, 18 PA7, 19 PB0, 20 PB1, 21 PB2, 22 PB10, 23 PB11, 24 PB12, 25 PB13, 26 PB14, 27 PB15, 28 PA8, 29 PA9, 30 PC6, 31 PC7, 32 PA10, 33 PA11_[PA9], 34 PA12_[PA10], 35 PA13, 36 PA14-BOOT0, 37 PA15, 38 PD0, 39 PD1, 40 PD2, 41 PD3, 42 PB3, 43 PB4, 44 PB5, 45 PB6, 46 PB7, 47 PB8, 48 PB9

## STM32G030C8T6
designator U?
No Description Available; PartNumber: STM32G030C8T6; Temperature Range: -x°C to x°C
footprint LQFP48_N
pins: 1 PC13, 2 PC14-OSC32_IN, 3 PC15-OSC32_OUT, 4 VBAT, 5 VREF+, 6 VDD/VDDA, 7 VSS/VSSA, 8 PF0-OSC_IN, 9 PF1-OSC_OUT, 10 NRST, 11 PA0, 12 PA1, 13 PA2, 14 PA3, 15 PA4, 16 PA5, 17 PA6, 18 PA7, 19 PB0, 20 PB1, 21 PB2, 22 PB10, 23 PB11, 24 PB12, 25 PB13, 26 PB14, 27 PB15, 28 PA8, 29 PA9, 30 PC6, 31 PC7, 32 PA10, 33 PA11, 34 PA12, 35 PA13, 36 PA14-BOOT0, 37 PA15, 38 PD0, 39 PD1, 40 PD2, 41 PD3, 42 PB3, 43 PB4, 44 PB5, 45 PB6, 46 PB7, 47 PB8, 48 PB9

## STM32G030F6P6
designator U?
No Description Available; PartNumber: STM32G030F6P6; Temperature Range: -x°C to x°C
footprint TSSOP 20 (Shrink Small Outline; 20 Leads; Body Width 4.4 mm; Pitch 0.65 mm)
pins: 1 PB7/PB8, 2 PB9/PC14-OSC32_IN, 3 PC15-OSC32_OUT, 4 VDD/VDDA, 5 VSS/VSSA, 6 NRST, 7 PA0, 8 PA1, 9 PA2, 10 PA3, 11 PA4, 12 PA5, 13 PA6, 14 PA7, 15 PB0/PB1/PB2/PA8, 16 PA11, 17 PA12, 18 PA13, 19 PA15/PA14-BOOT0, 20 PB3/PB4/PB5/PB6

## STR2550
designator Q?
PNP -500V, -0.5 Amp; PartNumber: STR2550; Temperature Range: -x°C to x°C
footprint SOT23_N (SOT23, 3-Leads, Body 2.9x1.3mm, Pitch 0.95mm, Lead Span 2.3mm - Reverse Pinning, IPC Medium Density)
pins: 1 B, 2 E, 3 C

## TIP41C
designator Q?
NPN BJT Power Transistor; PartNumber: TIP41C; Temperature Range: -x°C to x°C
footprint TO-220 AB WITH HEAT SINK (Epoxy meets UL94, V0)
footprint TO-220 AB (Epoxy meets UL94, V0)
footprint TO-220 AB S (Epoxy meets UL94, V0)
footprint TO-220 AB WITH HEAT SINK ASM
footprint TO-220 AB with heatsink ya25 (Epoxy meets UL94, V0-Design:Abbas Basereh)
pins: 1 B, 2 C, 3 E

## TIP42C
designator Q?
PNP BJT Power Transistor; PartNumber: TIP42C; Temperature Range: -x°C to x°C
footprint TO-220 AB WITH HEAT SINK (Epoxy meets UL94, V0)
footprint TO-220 AB (Epoxy meets UL94, V0)
footprint TO-220 AB S (Epoxy meets UL94, V0)
footprint TO-220 AB WITH HEAT SINK ASM
footprint TO-220 AB with heatsink ya25 (Epoxy meets UL94, V0-Design:Abbas Basereh)
pins: 1 B, 2 C, 3 E

## TJA1027
designator U?
LIN transceiver; Specification: TJA1027 ISO 17987/LIN 2.x/SAE J2602 transceiver; SMD Code: TJA1027; Temperature Range: -40°C to 150°C; Package: SOIC8-3.9mm; PartNumber: TJA1027
footprint SOIC 8-3.9mm (SOIC, 8-Leads, Body 4.9x3.9mm, Pitch 1.27mm, IPC Medium Density)
pins: 1 RXD, 2 SLP_N, 3 NC, 4 TXD, 5 GND, 6 LIN, 7 VBAT, 8 NC

## TJA1055
designator U?
CAN transceiver; PartNumber: TJA1055; Temperature Range: -x°C to x°C
footprint SOIC 14-3.9mm (SOIC, 14-Leads, Body 8.7x3.9mm, Pitch 1.27mm, IPC Medium Density)
pins: 1 INH, 2 TXD, 3 RXD, 4 ERR, 5 STB, 6 EN, 7 WAKE, 8 RTH, 9 RTL, 10 VCC, 11 CANH, 12 CANL, 13 GND, 14 BAT

## TL431-ACDM
designator U?
Programmable Precision Reference Voltage; PartNumber: TL431-ACDM; Temperature Range: -x°C to x°C
footprint SOIC 8-3.9mm (SOIC, 8-Leads, Body 4.9x3.9mm, Pitch 1.27mm, IPC Medium Density)
footprint DIP 8-N (DIP; 8 Leads; Row Spacing 7.62 mm; Pitch 2.54 mm)
pins: 1 K, 2 NC, 3 NC, 4 NC, 5 NC, 6 A, 7 NC, 8 Ref (in)

## TL431-ACLP
designator U?  (value not drawn)
Programmable Precision Reference Voltage; PartNumber: TL431-ACLP; Temperature Range: -x°C to x°C
footprint TO-92
footprint TO-92 BENT (DESIGNER :ABBAS BASEREH)
footprint TO-92 CF (DESIGNER :ABBAS BASEREH)
footprint TO-92 STR (DESIGNER :ABBAS BASEREH)
footprint SOT23_N (SOT23, 3-Leads, Body 2.9x1.3mm, Pitch 0.95mm, Lead Span 2.3mm - Reverse Pinning, IPC Medium Density); pin to pad 1>2 2>3 3>1
pins: 1 REF, 2 A, 3 K

## TL494
designator U?
PWM Controller; PartNumber: TL494; Temperature Range: -x°C to x°C
footprint SOIC 16-3.9MM (SOIC, 16-Leads, Body 9.9x3.9mm, Pitch 1.27mm, IPC Medium Density)
footprint DIP 16-N (DIP; 16 Leads; Row Spacing 7.62 mm; Pitch 2.54 mm)
pins: 1 1IN+, 2 1IN-, 3 FEEDBACK, 4 DTC, 5 CT, 6 RT, 7 GND, 8 C1, 9 E1, 10 E2, 11 C2, 12 VCC, 13 OUTPUT_CTRL, 14 REF, 15 2IN-, 16 2IN+

## TLC372
designator U?
Dual General Purpose LinCMOS™ Differential Comparator; PartNumber: TLC372; Temperature Range: -x°C to x°C
footprint DIP 8-N (DIP; 8 Leads; Row Spacing 7.62 mm; Pitch 2.54 mm)
footprint SOIC 8-3.9mm (SOIC, 8-Leads, Body 4.9x3.9mm, Pitch 1.27mm, IPC Medium Density)
pins on every part: 4 V- (power), 8 V+ (power)
part A pins: 1 OUT (out), 2 IN+ (in), 3 IN- (in)
part B pins: 5 IN- (in), 6 IN+ (in), 7 OUT (out)

## TNY27x
designator U?, comment TNY 27x
Tiny Switch lll; PartNumber: TNY 27x; Temperature Range: -x°C to x°C
footprint SOIC8 - TNY27x
footprint DIP 8 - TNY27x
pins: BP BP/M (in), D (power), En EN/UV (in), S

## TPD3S0x4
designator U?, comment TPD3S014
Current-Limit Switch and D+/D- ESD Protection for Automotive USB Host Ports; PartNumber: TPD3S014; Temperature Range: -x°C to x°C
footprint SOT23-6
pins: 1 EN, 2 GND, 3 IN, 4 OUT, 5 D1, 6 D2

## TPS5430
designator U?
PartNumber: TPS5430; Temperature Range: -x°C to x°C
footprint SOIC 8-3.9mm (SOIC, 8-Leads, Body 4.9x3.9mm, Pitch 1.27mm, IPC Medium Density)
pins: 1 BOOT, 2 NC, 3 NC, 4 VSENS, 5 ENA, 6 GND, 7 VIN, 8 PH

## TPS54331
designator U?
PartNumber: TPS54331; Temperature Range: -x°C to x°C
footprint SOIC 8-3.9mm (SOIC, 8-Leads, Body 4.9x3.9mm, Pitch 1.27mm, IPC Medium Density)
pins: 1 BOOT, 2 VIN, 3 EN, 4 SS, 5 VSENS, 6 COMP, 7 GND, 8 PH

## TPS61169
designator U?
TPS61169 38V High Current-Boost WLED Driver With PWM Control; SMD Code: SZL; Temperature Range: -40°C to 85°C; Package: SOT23-5; Specification: TPS61169 38V High Current-Boost WLED Driver With PWM Control; PartNumber: TPS61169
footprint SOT23-5
pins: 1 SW, 2 GND, 3 FB, 4 CTRL, 5 VIN

## Triac
designator SCR?, comment BT 136
Triode for Alternating Current; PartNumber: BT 136; Temperature Range: -x°C to x°C
footprint TO-220-H
footprint TO-220-H2
footprint TO-220 AB (Epoxy meets UL94, V0-Design:Abbas Basereh)
footprint TO-220 AB S (Epoxy meets UL94, V0-Design:Abbas Basereh)
footprint TO-220 AB WITH HEAT SINK (Epoxy meets UL94, V0-Design:Abbas Basereh)
footprint TO-220 AB with heatsink ya25 (Epoxy meets UL94, V0-Design:Abbas Basereh)
footprint TO-220 AB with heatsink ya25 (Epoxy meets UL94, V0-Design:Abbas Basereh)
footprint TO-247
pins: 1, 2, 3

## TXB0104D
designator U?
4-BIT BIDIRECTIONAL VOLTAGE-LEVEL TRANSLATOR  WITH AUTOMATIC DIRECTION SENSING AND +/-15-kV ESD PROTECTION; PartNumber: TXB0104D; Temperature Range: -x°C to x°C
footprint SOIC 14-3.9mm (SOIC, 14-Leads, Body 8.7x3.9mm, Pitch 1.27mm, IPC Medium Density)
pins: 1 VCCA, 2 A1, 3 A2, 4 A3, 5 A4, 6 NC_1, 7 GND, 8 OE, 9 NC_2, 10 B4, 11 B3, 12 B2, 13 B1, 14 VCCB

## UC3845
designator U?
High Performance Current Mode Controller; PartNumber: UC3845; Temperature Range: -x°C to x°C
footprint DIP 8-N (DIP; 8 Leads; Row Spacing 7.62 mm; Pitch 2.54 mm)
footprint SOIC 8-3.9mm (SOIC, 8-Leads, Body 4.9x3.9mm, Pitch 1.27mm, IPC Medium Density)
pins: 1 CMPEN (out), 2 VFB (in), 3 ISEN (in), 4 RT/CT, 5 GND (power), 6 OUT (out), 7 VCC (power), 8 VREF (out)

## UCC28880DR
designator U?
UCC28880 700-V, 100-mA Low Quiescent Current Off-Line Converter; Temperature Range: -x°C to x°C; PartNumber: UCC28880DR
footprint SOIC 7-3.9mm (SOIC, 8-Leads, Body 4.9x3.9mm, Pitch 1.27mm, IPC Medium Density)
pins: 1 GND, 2 GND, 3 FB (in), 4 VDD, 5 HVIN, 6 NC, 8 DRAIN

## ULN2003
designator U?, comment ULQ2003D1013TRY
Seven Darlington Array; Specification: 50V 7-ch darlington transistor array; Warehouse Number: 10511023; SMD Code: ULQ2003D1013TRY; Temperature Range: -40°C to 85°C; Package: SOIC 16-3.9MM; PartNumber: ULQ2003D1013TRY
footprint DIP 16-N (DIP; 16 Leads; Row Spacing 7.62 mm; Pitch 2.54 mm)
footprint SOIC 16-3.9MM (SOIC, 16-Leads, Body 9.9x3.9mm, Pitch 1.27mm, IPC Medium Density)
pins: 1 IN1, 2 IN2, 3 IN3, 4 IN4, 5 IN5, 6 IN6, 7 IN7, 8 GND, 9 COM, 10 OUT7, 11 OUT6, 12 OUT5, 13 OUT4, 14 OUT3, 15 OUT2, 16 OUT1

## ULN2803A
designator U?
Eight Darlington Array; Temperature Range: -x°C to x°C; PartNumber: ULN2803A
footprint DIP 18-N (DIP; 18 Leads; Row Spacing 7.62 mm; Pitch 2.54 mm)
pins: 1 IN1 (in), 2 IN2 (in), 3 IN3 (in), 4 IN4 (in), 5 IN5 (in), 6 IN6 (in), 7 IN7 (in), 8 IN8 (in), 9 GND (power), 10 COM D, 11 OUT8 (oc), 12 OUT7 (oc), 13 OUT6 (oc), 14 OUT5 (oc), 15 OUT4 (oc), 16 OUT3 (oc), 17 OUT2 (oc), 18 OUT1 (oc)

## VN5E160S-E
designator U?
Single channel high side driver for automotive applications; Temperature Range: -x°C to x°C; PartNumber: VN5E160S-E
footprint SOIC 8-3.9mm (SOIC, 8-Leads, Body 4.9x3.9mm, Pitch 1.27mm, IPC Medium Density)
pins: 1 GND, 2 INPUT, 3 STATUS, 4 STAT_DIS, 5 VCC, 6 OUTPUT, 7 OUTPUT, 8 VCC

## VN5160S-E
designator U?
VN5160S-E, MOSFET Power Driver, 8-Pin SOIC; PartNumber: VN5160S-E; Temperature Range: -x°C to x°C
footprint SOIC 8-3.9mm (SOIC, 8-Leads, Body 4.9x3.9mm, Pitch 1.27mm, IPC Medium Density)
pins: 1 GND, 2 INPUT, 3 STATUS, 4 STAT_DIS, 5 VCC_1, 6 OUTPUT_1, 7 OUTPUT_2, 8 VCC_2

## W25QXX
designator U?, comment W25Q??
3V 64M-BIT / SERIAL FLASH MEMORY WITH / DUAL/QUAD SPI & QPI; PartNumber: W25Q??; Temperature Range: -x°C to x°C
footprint SOIC127P790X216-8N
pins: 1 ~{CS}, 2 DO(IO1), 3 ~{WP}(IO1), 4 GND, 5 DI(IO0), 6 CLK, 7 ~{HOLD}(IO3), 8 VCC

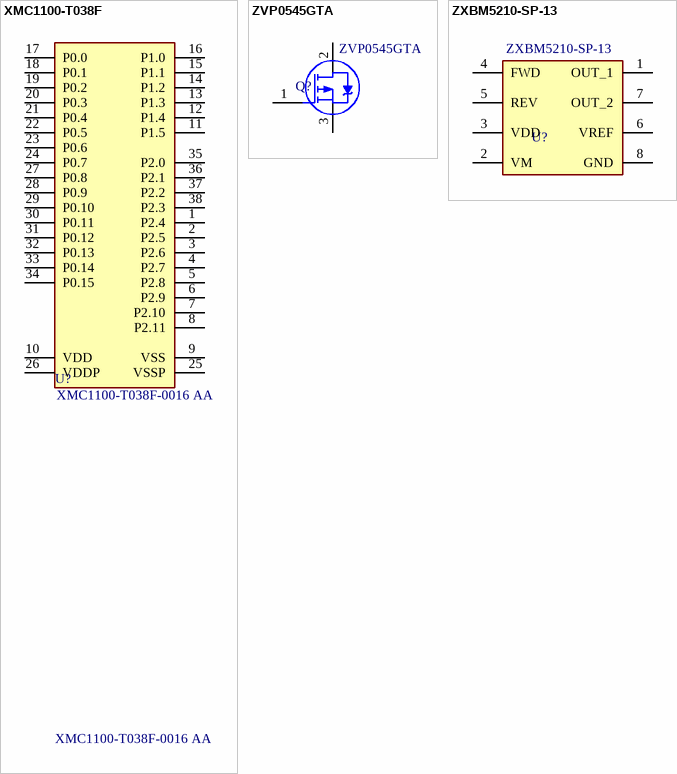
[diagram p7: symbols XMC1100-T038F to ZXBM5210-SP-13]

## XMC1100-T038F
designator U?, comment XMC1100-T038F-0016 AA
32 MHz XMC1000 MCU with 16 KByte Program Memory, 16 KByte SRAM, 1.8 V, 5.0 V, -40 to 85 degC, PG-TSSOP-38, Green; PartNumber: XMC1100-T038F-0016 AA; Temperature Range: -x°C to x°C
footprint TSSOP 38 N (Footprint not found)
footprint TSSOP 38 L (SOP, 38-Leads, Body 9.7x4.4mm, Pitch 0.5mm, IPC Medium Density)
pins: 1 P2.4, 2 P2.5, 3 P2.6, 4 P2.7, 5 P2.8, 6 P2.9, 7 P2.10, 8 P2.11, 9 VSS "Supply GND, ADC reference GND", 10 VDD "Supply VDD, ADC reference voltage", 11 P1.5, 12 P1.4, 13 P1.3, 14 P1.2, 15 P1.1, 16 P1.0, 17 P0.0, 18 P0.1, 19 P0.2, 20 P0.3, 21 P0.4, 22 P0.5, 23 P0.6, 24 P0.7, 25 VSSP "I/O port ground", 26 VDDP "I/O port supply", 27 P0.8, 28 P0.9, 29 P0.10, 30 P0.11, 31 P0.12, 32 P0.13, 33 P0.14, 34 P0.15, 35 P2.0, 36 P2.1, 37 P2.2, 38 P2.3

## ZVP0545GTA
designator Q?
-450V R(ds)=150 Ohm P Channel; PartNumber: ZVP0545GTA; Temperature Range: -x°C to x°C
footprint SOT223_4 (SOT223, 4-Leads, Body 6.5x3.5mm, Pitch 2.30mm-Designer Abbas Basereh)
pins: 1 G, 2 D, 3 S

## ZXBM5210-SP-13
designator U?
Motor / Motion / Ignition Controllers & Drivers Reversible DC Drive 0.85mA; Temperature Range: -x°C to x°C; PartNumber: ZXBM5210-SP-13
footprint SOIC 8-3.9mm (SOIC, 8-Leads, Body 4.9x3.9mm, Pitch 1.27mm, IPC Medium Density)
pins: 1 OUT_1, 2 VM, 3 VDD, 4 FWD, 5 REV, 6 VREF, 7 OUT_2, 8 GND